# EAGLE library part P82B96PN,112 (library NXP_By_element14_Batch_1)
Dual bidirectional bus buffer
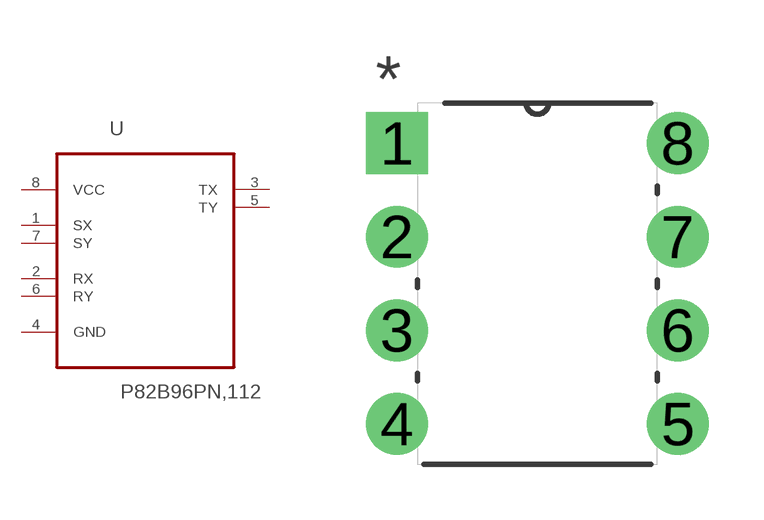
[diagram p397: symbol with the pads of DIP254P762X420-8; footprint DIP254P762X420-8]

Designator prefix U

## P82B96PN,112 (MPN: P82B96PN,112; OC_FARNELL: 1831236; OC_NEWARK: 70R8459; PACKAGE: DIP-8; SUPPLIER: NXP Semiconductors)  [DIP254P762X420-8]
1  SX
2  RX  in
3  TX  out
4  GND  pas
5  TY  out
6  RY  in
7  SY
8  VCC  pwr

## Footprint DIP254P762X420-8 (pad centres in mm)
drill 1.118 square: 1 -7.62,7.62
drill 1.118: 2 -7.62,5.08; 3 -7.62,2.54; 4 -7.62,0; 5 0,0; 6 0,2.54; 7 0,5.08; 8 0,7.62